# Altium footprint library ProgrammerHeader.PcbLib: 1 footprints
Each footprint in its own frame and in the unit in brackets; x right, y up, seen from the top. Pads: shape width x height; smd on the part's side, far side on the other; paste and mask are expansions set on the pad; w line width, h text height; cw(c..) or ccw(c..) is an arc to the next point about the centre after c.
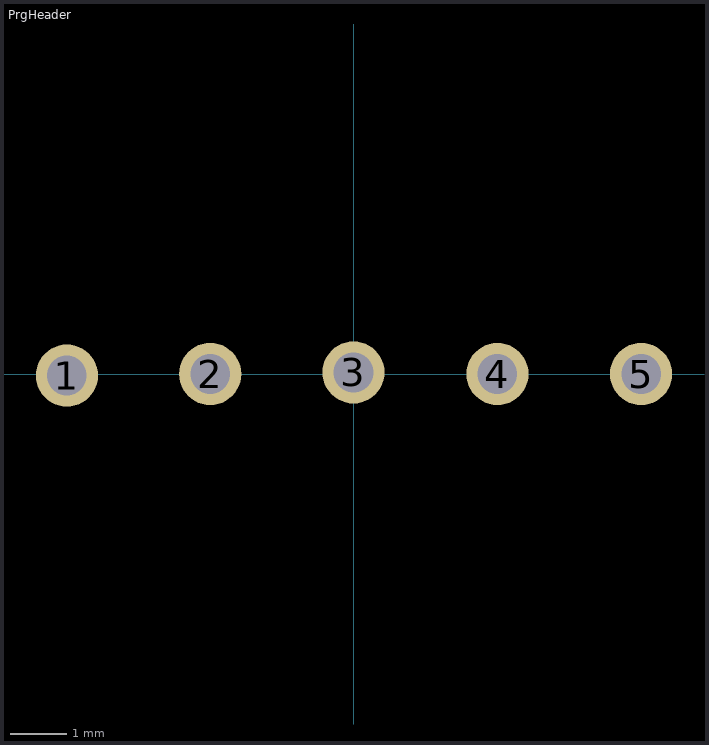
[diagram p0: the footprint, top view; thin cyan lines are the x and y axes]

## PrgHeader [mm] "5 pin programmer header for RFD22301"
pads (5):
  round 1.1 hole 0.7: 1(-5.077,-0.027) 2(-2.543,0) 3(-0.009,0.027) 4(2.537,0) 5(5.077,0)